# EAGLE library part MAX8559 (library EW_voltage_regulators)
Dual, 300mA, Low-Noise Linear Regulator with Independent Shutdown Source: Data sheet <http://datasheets.maxim-ic.com/en/ds/MAX8559.pdf>
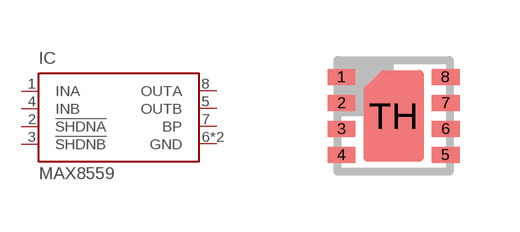
[diagram p28: symbol with the pads of TDFN8-3X3MM; footprint TDFN8-3X3MM]

Designator prefix IC

## MAX8559  [TDFN8-3X3MM]
1  INA  in
2  !SHDNA  in
3  !SHDNB  in
4  INB  in
5  OUTB  out
6  GND  pwr
7  BP  pas
8  OUTA  out
TH  GND  pwr

## Footprint TDFN8-3X3MM (pad centres in mm)
TDFN 8 pol. 3x3 mm Source: Data sheet <http://datasheets.maxim-ic.com/en/ds/MAX8559.pdf>
smd 0.7 x 0.4: 1 -1.3,0.975; 2 -1.3,0.325; 3 -1.3,-0.325; 4 -1.3,-0.975; 5 1.3,-0.975; 6 1.3,-0.325; 7 1.3,0.325; 8 1.3,0.975
smd 1 x 1: TH 0,0